# Altium footprint library DS1040-01RN.PcbLib: 1 footprints
Each footprint in its own frame and in the unit in brackets; x right, y up, seen from the top. Pads: shape width x height; smd on the part's side, far side on the other; paste and mask are expansions set on the pad; w line width, h text height; cw(c..) or ccw(c..) is an arc to the next point about the centre after c.
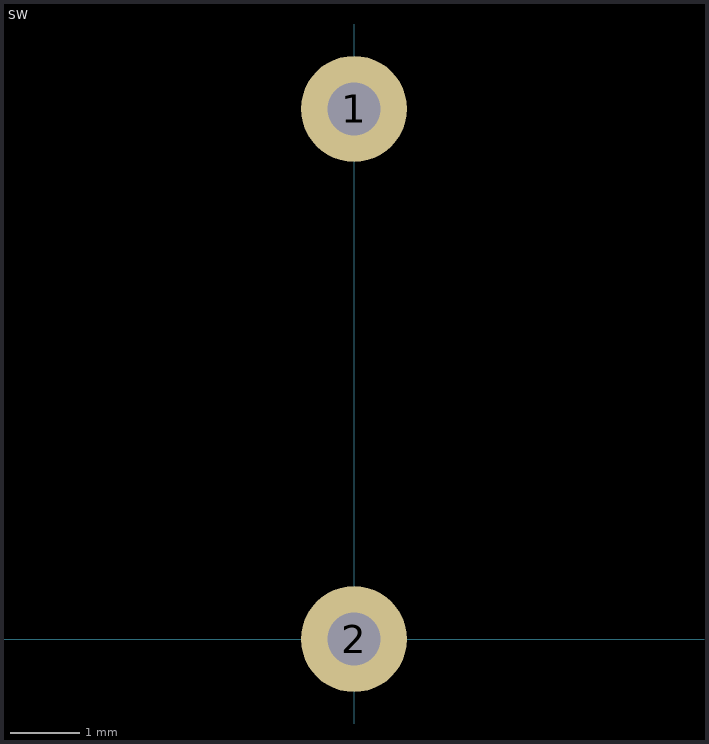
[diagram p0: the footprint, top view; thin cyan lines are the x and y axes]

## SW [mil] "Switch"
pads (2):
  round 60 hole 30: 1(0,300) 2(0,0)
3D body "User Library-DS1040-01 (DIP_switch).STEP": height 267.72, standoff -151.57, extent -78.73,-44.87 78.75,344.89